# Altium footprint library M8TE.PcbLib: 4 footprints
Each footprint in its own frame and in the unit in brackets; x right, y up, seen from the top. Pads: shape width x height; smd on the part's side, far side on the other; paste and mask are expansions set on the pad; w line width, h text height; cw(c..) or ccw(c..) is an arc to the next point about the centre after c.
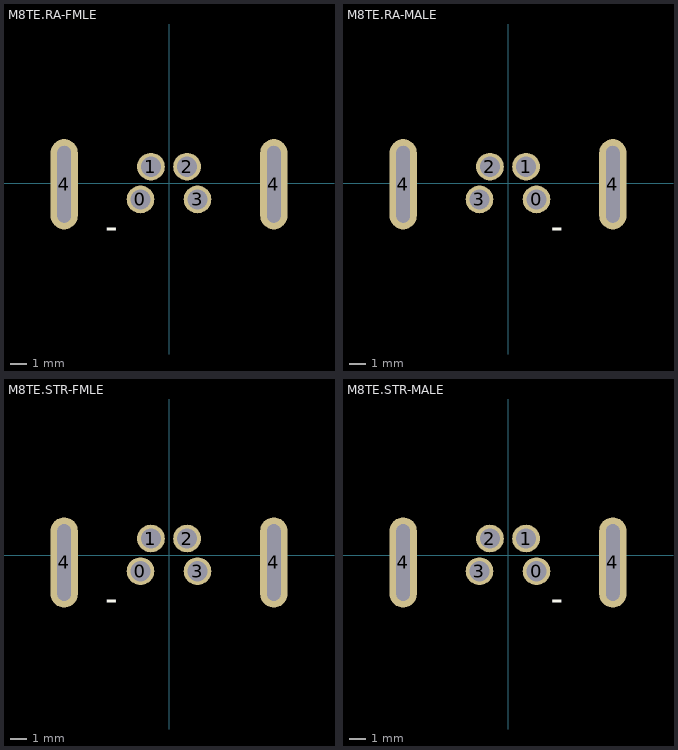
[diagram p0: the footprints below, top view; thin cyan lines are the x and y axes]

## M8TE.RA-FMLE [mm]
height 2
pads (6):
  round 1.65 hole 1.2: 0(-1.7,-0.95) 1(-1.075,1) 2(1.075,1) 3(1.7,-0.95)
  oval 1.626x5.385 hole 0.813 slot 4.572 at 90 deg: 4(-6.25,-0.048) 4(6.25,-0.048)
Top Overlay:
  text "-" at -3.81,-3.302 h1.52
3D body "M8.FMLE.PNLREAR.4POS.RA.SHLD.STEP": height 12.65, standoff -3.4, extent -6.378,-18.626 6.378,1.524

## M8TE.RA-MALE [mm]
height 2
pads (6):
  round 1.65 hole 1.2: 0(1.7,-0.95) 1(1.075,1) 2(-1.075,1) 3(-1.7,-0.95)
  oval 1.626x5.385 hole 0.813 slot 4.572 at 90 deg: 4(-6.25,-0.048) 4(6.25,-0.048)
Top Overlay:
  text "-" at 2.54,-3.302 h1.52
3D body "M8.MALE.PNLREAR.4POS.RA.SHLD.STEP": height 12.65, standoff -3.4, extent -6.378,-20.626 6.378,1.524

## M8TE.STR-FMLE [mm]
height 2
pads (6):
  round 1.65 hole 1.2: 0(-1.7,-0.95) 1(-1.075,1) 2(1.075,1) 3(1.7,-0.95)
  oval 1.626x5.385 hole 0.813 slot 4.572 at 90 deg: 4(-6.25,-0.429) 4(6.25,-0.429)
Top Overlay:
  text "-" at -3.81,-3.302 h1.52
3D body "M8.FMLE.PNLREAR.4POS.STR.SHLD.STEP": height 15.24, standoff -3.36, extent -6.4,-6.881 6.4,6.119

## M8TE.STR-MALE [mm]
height 2
pads (6):
  round 1.65 hole 1.2: 0(1.7,-0.95) 1(1.075,1) 2(-1.075,1) 3(-1.7,-0.95)
  oval 1.626x5.385 hole 0.813 slot 4.572 at 90 deg: 4(-6.25,-0.429) 4(6.25,-0.429)
Top Overlay:
  text "-" at 2.54,-3.302 h1.52
3D body "M8.MALE.PNLREAR.4POS.STR.SHLD.STEP": height 17.02, standoff -3.38, extent -6.4,-6.881 6.4,6.119